# EAGLE library part 74LVC2G74 (library Jordan ICs)
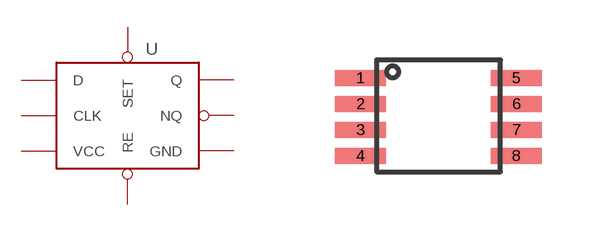
[diagram p0: symbol with the pads of SOT505-2; footprint SOT505-2]

Designator prefix -

## 74LVC2G74  [SOT505-2]
1  CLK
2  D
3  NQ
4  GND
5  Q
6  RE
7  SET
8  VCC

## Footprint SOT505-2 (pad centres in mm)
smd 1.27 x 0.4: 1 0,1.95; 2 0,1.3; 3 0,0.65; 4 0,0; 5 3.9,1.95; 6 3.9,1.3; 7 3.9,0.65; 8 3.9,0